# EAGLE library part 1X6 (library teelsys-0.2)
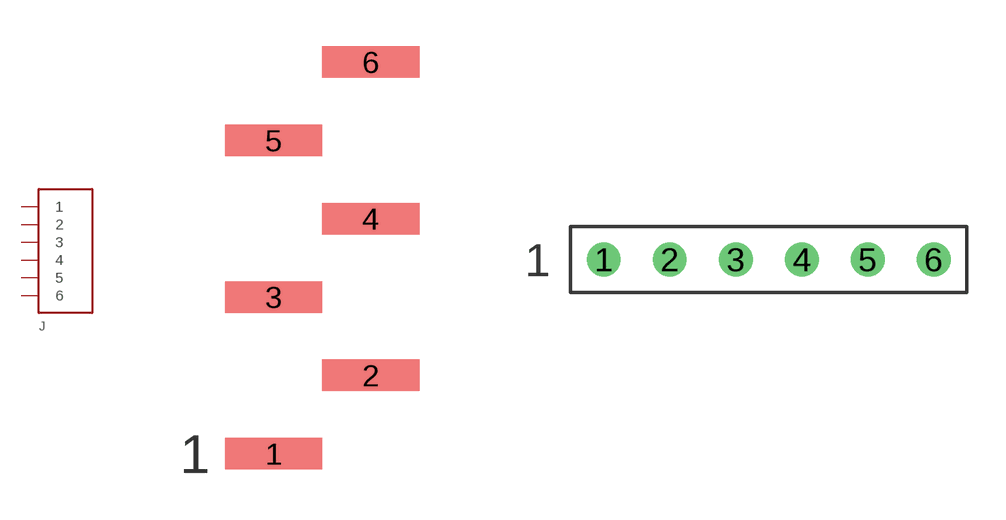
[diagram p2: symbol with the pads of 1X6_SMD; footprints 1X6_SMD, 1X6]

Designator prefix J

## 1X6  [1X6_SMD]
1  1
2  2
3  3
4  4
5  5
6  6

## 1X61X6  [1X6]
Pads as for 1X6_SMD

## Footprint 1X6_SMD (pad centres in mm)
smd 3.15 x 1.02: 1 0,0; 2 3.15,2.54; 3 0,5.08; 4 3.15,7.62; 5 0,10.16; 6 3.15,12.7

## Footprint 1X6 (pad centres in mm)
drill 0.8: 1 -6.35,0; 2 -3.81,0; 3 -1.27,0; 4 1.27,0; 5 3.81,0; 6 6.35,0